# Altium footprint library драйверы.PcbLib: 17 footprints (part 2 of 2)
Each footprint in its own frame and in the unit in brackets; x right, y up, seen from the top. Pads: shape width x height; smd on the part's side, far side on the other; paste and mask are expansions set on the pad; w line width, h text height; cw(c..) or ccw(c..) is an arc to the next point about the centre after c.
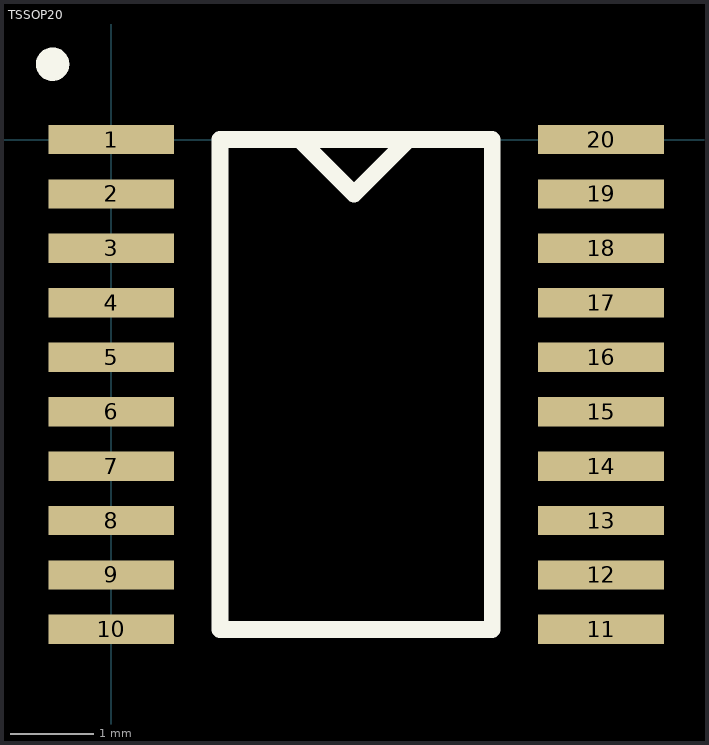
[diagram p1: the footprint, top view; thin cyan lines are the x and y axes]

## TSSOP20 [mm]
pads (20):
  rect 1.5x0.35 smd mask+0.025: 1(0,0) 2(0,-0.65) 3(0,-1.3) 4(0,-1.95) 5(0,-2.6) 6(0,-3.25) 7(0,-3.9) 8(0,-4.55) 9(0,-5.2) 10(0,-5.85) 11(5.85,-5.85) 12(5.85,-5.2) 13(5.85,-4.55) 14(5.85,-3.9) 15(5.85,-3.25) 16(5.85,-2.6) 17(5.85,-1.95) 18(5.85,-1.3) 19(5.85,-0.65) 20(5.85,0)
Top Overlay:
  circle w0.2: c-0.7,0.9 r0.1
  lines w0.2: 2.25,0 2.9,-0.65 3.55,0 ; 1.3,-5.85 4.55,-5.85 4.55,0 1.3,0 1.3,-5.85
3D body "User Library-TSSOP-20.SLDPRT": height 1.2, standoff 0, extent -0.35,-6.225 6.2,0.375